# Altium footprint library PCB - LEADED - DPAK - ONSEMI DPAK 369C F.PcbLib: 1 footprints
Each footprint in its own frame and in the unit in brackets; x right, y up, seen from the top. Pads: shape width x height; smd on the part's side, far side on the other; paste and mask are expansions set on the pad; w line width, h text height; cw(c..) or ccw(c..) is an arc to the next point about the centre after c.
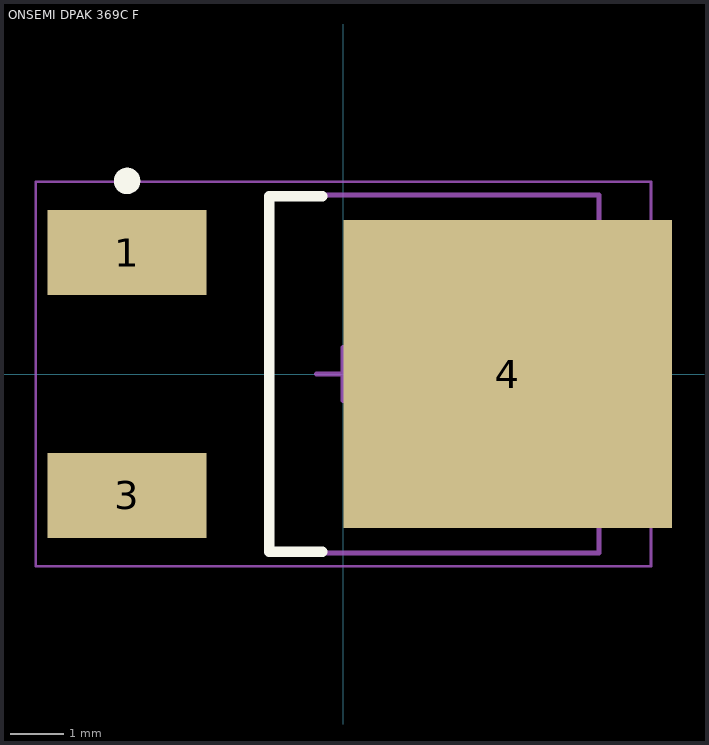
[diagram p0: the footprint, top view; thin cyan lines are the x and y axes]

## ONSEMI DPAK 369C F [mm] "DPAK (SINGLE GAUGE)  CASE 369C  ISSUE F"
height 2.38
pads (3):
  rect 3x1.6 smd: 1(-4.08,2.29) 3(-4.08,-2.29)
  rect 6.2x5.8 smd: 4(3.1,0)
Top Overlay:
  circle w0.25: c-4.08,3.64 r0.125
  lines w0.2: -0.4,-3.35 -1.4,-3.35 -1.4,3.35 -0.4,3.35
Mechanical 13:
  lines w0.1: -1.4,-3.375 -1.4,3.375 4.82,3.375 4.82,-3.375 -1.4,-3.375
Mechanical 15:
  lines w0.05: -5.8,-3.625 -5.8,3.625 5.8,3.625 5.8,-3.625 -5.8,-3.625
  lines w0.1: -0.5,0 0.5,0 ; 0,-0.5 0,0.5
3D body "ONSEMI DPAK 369C F.step": height 2.38, standoff 0, extent -4.572,-3.375 5.333,3.375